# Altium schematic symbol library ADL8111ACCZN.SchLib: 2 symbols
Pins are listed as number, name and electrical type; pins without a type are passive.

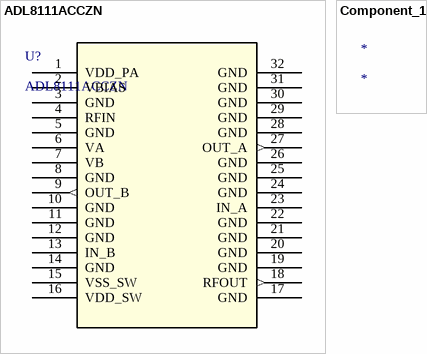
[diagram p0: symbols ADL8111ACCZN to Component_1]

## ADL8111ACCZN
designator U?
No Description Available; Mfr_Name: Analog Devices Inc; Copyright: Copyright (C) 2022 Ultra Librarian. All rights reserved.; Manufacturer_Part_Number: ADL8111ACCZN; RefDes: RefDes; Type: DEV
footprint IC28_ADL8111ACCZN_ADI
pins: 1 VDD_PA (power), 2 VBIAS, 3 GND, 4 RFIN, 5 GND, 6 VA, 7 VB, 8 GND, 9 OUT_B (out), 10 GND, 11 GND, 12 GND, 13 IN_B, 14 GND, 15 VSS_SW, 16 VDD_SW (power), 17 GND, 18 RFOUT (out), 19 GND, 20 GND, 21 GND, 22 GND, 23 IN_A, 24 GND, 25 GND, 26 GND, 27 OUT_A (out), 28 GND, 29 GND, 30 GND, 31 GND, 32 GND

## Component_1
designator *